# Altium footprint library Crazyflie_Shield3.PcbLib: 25 footprints (part 2 of 2)
Each footprint in its own frame and in the unit in brackets; x right, y up, seen from the top. Pads: shape width x height; smd on the part's side, far side on the other; paste and mask are expansions set on the pad; w line width, h text height; cw(c..) or ccw(c..) is an arc to the next point about the centre after c.
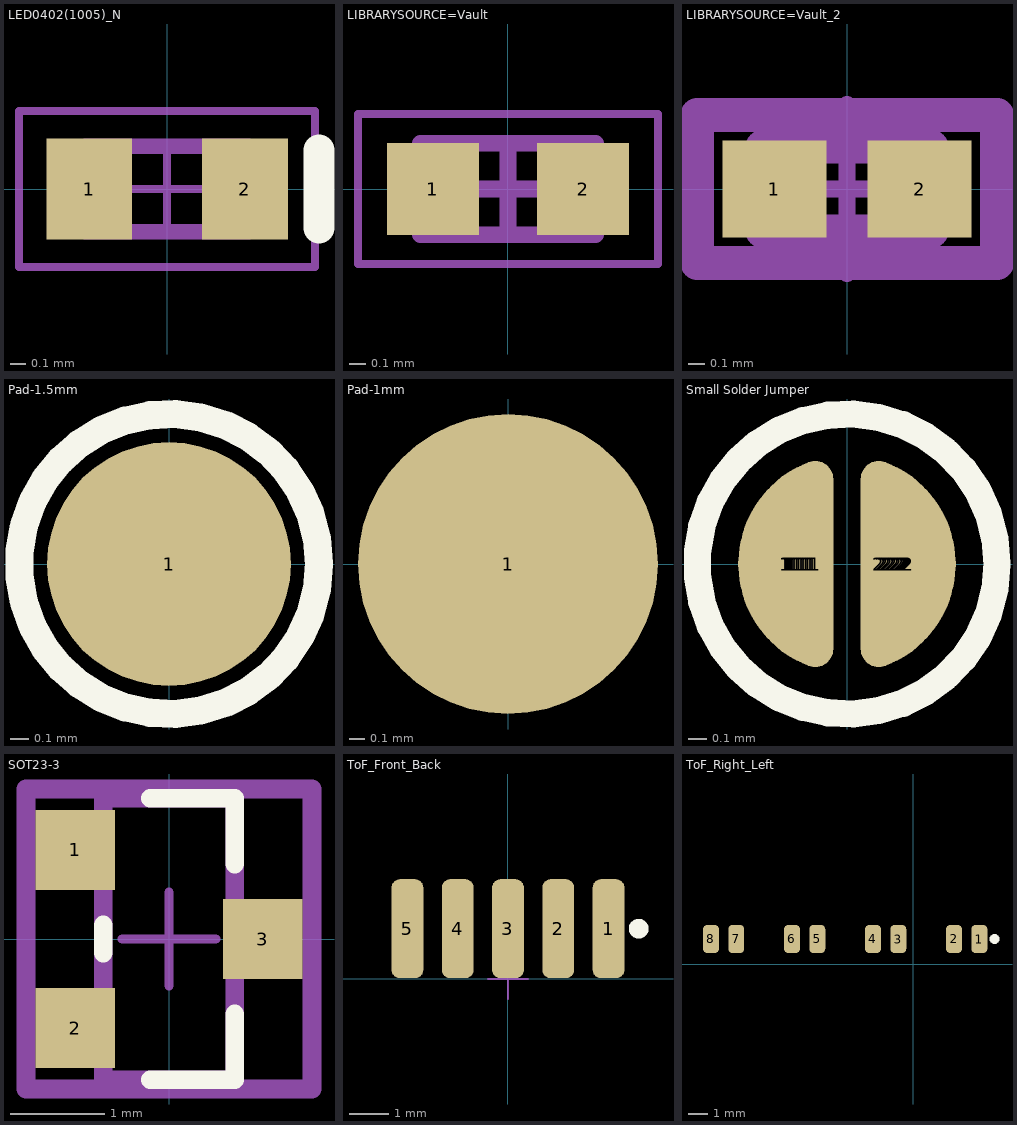
[diagram p1: the footprints below, top view; thin cyan lines are the x and y axes]

## LED0402(1005)_N [mm] "Chip LED Red, Body 1.0x0.5mm, IPC Medium Density"
height 15
pads (2):
  rect 0.55x0.65 smd: 1(-0.5,0) 2(0.5,0)
Top Overlay:
  lines w0.2: 0.975,-0.25 0.975,0.25
Mechanical 12:
  lines w0.1: -0.525,-0.275 0.525,-0.275 0.525,0.275 -0.525,0.275 -0.525,-0.275
Mechanical 15:
  lines w0.05: -0.275,0 0.275,0 ; 0,-0.275 0,0.275 ; -0.95,-0.5 -0.95,0.5 0.95,0.5 0.95,-0.5 -0.95,-0.5
3D body "User Library-LED_1006_R.STEP": height 0.21, standoff 0.01, extent -0.5,-0.3 0.5,0.3

## LIBRARYSOURCE=Vault [mm] "Chip Resistor, 2-Leads, Body 1.05x0.55mm, IPC Medium Density"
height 0.4
pads (2):
  rect 0.55x0.55 smd: 1(-0.45,0) 2(0.45,0)
Mechanical 13:
  lines w0.1: -0.525,-0.275 -0.525,0.275 0.525,0.275 0.525,-0.275 -0.525,-0.275
Mechanical 15:
  lines w0.05: -0.9,-0.45 -0.9,0.45 0.9,0.45 0.9,-0.45 -0.9,-0.45
  lines w0.1: -0.275,0 0.275,0 ; 0,-0.275 0,0.275
3D body "RESC1005X04N.step": height 0.4, standoff 0, extent -0.525,-0.275 0.525,0.275

## LIBRARYSOURCE=Vault_2 [mm]
pads (2):
  rect 0.615x0.572 smd paste+0 mask+0: 1(-0.429,0) 2(0.429,0)
Top 3D Body:
  lines w0.2: -0.5,-0.25 0.5,-0.25 0.5,0.25 -0.5,0.25 -0.5,-0.25
Top Courtyard:
  lines w0.2: -0.886,-0.436 0.886,-0.436 0.886,0.436 -0.886,0.436 -0.886,-0.436
Top Assembly:
  lines w0.2: -0.886,-0.436 0.886,-0.436 0.886,0.436 -0.886,0.436 -0.886,-0.436
  text ".Designator" at 0,0.188 h1
Top Component Center:
  lines w0.1: -0.5,0 0.5,0 ; 0,-0.5 0,0.5
3D body "Cap_Murata_GRM1552C1H271GA01J_eec.STEP": height 0.55, standoff 0, extent -0.5,-0.25 0.5,0.25

## Pad-1.5mm [mm] "SMT Test Pad"
height 15
pads (1):
  round 1.3 smd paste-5: 1(0,0)
Top Overlay:
  circle w0.15: c0,0 r0.8

## Pad-1mm [mm] "SMT Test Pad"
height 15
pads (1):
  round 2 smd paste-5: 1(0,0)
Mechanical 15:
  lines w0.1: -0.5,0 0.5,0 ; 0,-0.5 0,0.5

## Small Solder Jumper [mm] "Small Solder Jumper (shortcut with a drop of tin if needed)"
height 15
pads (36):
  round 0.525 smd paste-5 mask+0: 1(-0.337,0) 2(0.337,0)
  oval 0.52x0.63 smd paste-5 mask+0: 1(-0.335,0) 2(0.335,0)
  oval 0.51x0.71 smd paste-5 mask+0: 1(-0.33,0) 2(0.33,0)
  oval 0.5x0.76 smd paste-5 mask+0: 1(-0.325,0) 2(0.325,0)
  oval 0.49x0.8 smd paste-5 mask+0: 1(-0.32,0) 2(0.32,0)
  oval 0.475x0.84 smd paste-5 mask+0: 1(-0.312,0) 2(0.312,0)
  oval 0.465x0.865 smd paste-5 mask+0: 1(-0.308,0) 2(0.308,0)
  oval 0.45x0.897 smd paste-5 mask+0: 1(-0.3,0) 2(0.3,0)
  oval 0.425x0.943 smd paste-5 mask+0: 1(-0.288,0) 2(0.288,0)
  oval 0.4x0.981 smd paste-5 mask+0: 1(-0.275,0) 2(0.275,0)
  oval 0.375x1.013 smd paste-5 mask+0: 1(-0.262,0) 2(0.262,0)
  oval 0.35x1.04 smd paste-5 mask+0: 1(-0.25,0) 2(0.25,0)
  oval 0.325x1.063 smd paste-5 mask+0: 1(-0.238,0) 2(0.238,0)
  oval 0.3x1.082 smd paste-5 mask+0: 1(-0.225,0) 2(0.225,0)
  oval 0.275x1.098 smd paste-5 mask+0: 1(-0.212,0) 2(0.212,0)
  oval 0.25x1.112 smd paste-5 mask+0: 1(-0.2,0) 2(0.2,0)
  oval 0.225x1.125 smd paste-5 mask+0: 1(-0.188,0) 2(0.188,0)
  oval 0.2x1.137 smd paste-5 mask+0: 1(-0.175,0) 2(0.175,0)
Top Overlay:
  circle w0.15: c0,0 r0.827
Top Solder:
  circle w0.7: c0,0 r0.35

## SOT23-3 [mm]
pads (3):
  rect 0.85x0.85 smd paste+0 mask+0: 1(-1,0.95) 2(-1,-0.95) 3(1,0)
Top Overlay:
  lines w0.2: -0.7,-0.15 -0.7,0.15 ; -0.2,-1.5 0.7,-1.5 0.7,-0.8 ; -0.2,1.5 0.7,1.5 0.7,0.8
Top 3D Body:
  lines w0.2: -0.7,-1.5 0.7,-1.5 0.7,1.5 -0.7,1.5 -0.7,-1.5
Top Courtyard:
  lines w0.2: -1.525,-1.6 1.525,-1.6 1.525,1.6 -1.525,1.6 -1.525,-1.6
Top Assembly:
  lines w0.2: -1.525,-1.6 1.525,-1.6 1.525,1.6 -1.525,1.6 -1.525,-1.6
Top Component Center:
  lines w0.1: -0.5,0 0.5,0 ; 0,-0.5 0,0.5
3D body "Diode_Bourns_Inc_CDSOT23-SM712_eec.STEP": height 1.17, standoff 0, extent -1.148,-1.45 1.148,1.45

## ToF_Front_Back [mm] "1mm pitch"
pads (5):
  rrect50% 0.8x2.5 smd: 1(2.54,1.27) 2(1.27,1.27) 3(0,1.27) 4(-1.27,1.27) 5(-2.54,1.27)
Top Overlay:
  circle w0.25: c3.302,1.27 r0.125
Mechanical 15:
  lines w0.05: -0.5,0 0.5,0 ; 0,-0.5 0,0.5

## ToF_Right_Left [mm] "1mm pitch"
pads (8):
  rrect50% 0.8x1.4 smd: 1(3.302,1.27) 2(2.032,1.27) 3(-0.762,1.27) 4(-2.032,1.27) 5(-4.826,1.27) 6(-6.096,1.27) 7(-8.89,1.27) 8(-10.16,1.27)
Top Overlay:
  circle w0.25: c4.064,1.27 r0.125